# EAGLE library part SOLARCHARGERPLACEHOLDER (library DMF-SolarChargerPlaceholder)
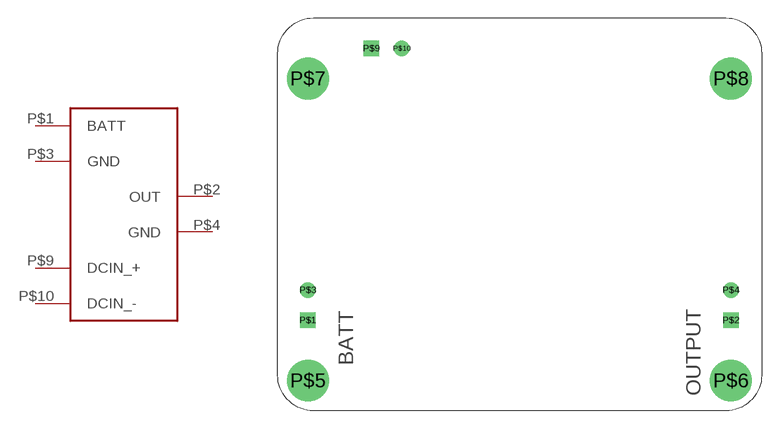
[diagram p0: symbol with the pads of SOLARCHARGERPLACEHOLDER; footprint SOLARCHARGERPLACEHOLDER]

Designator prefix A

## SOLARCHARGERPLACEHOLDER  [SOLARCHARGERPLACEHOLDER]
P$1  BATT
P$2  OUT
P$3  GND
P$4  GND
P$9  DCIN_+
P$10  DCIN_-

## Footprint SOLARCHARGERPLACEHOLDER (pad centres in mm)
drill 0.8 square: P$1 2.54,7.62; P$2 38.1,7.62; P$9 7.874,30.48
drill 0.8: P$3 2.54,10.16; P$4 38.1,10.16; P$10 10.414,30.48
drill 2.5 pad 3.2: P$5 2.54,2.54; P$6 38.1,2.54; P$7 2.54,27.94; P$8 38.1,27.94